# Altium integrated library KY-023_JoyStick.IntLib: 1 symbol
Pins are listed as number, name and electrical type; pins without a type are passive.

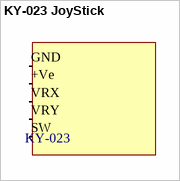
[diagram p0: symbol KY-023 JoyStick]

## KY-023 JoyStick
designator KY-023  (value not drawn)
footprint JoyStick
pins: +Ve, GND, SW, VRX, VRY